# EAGLE library part SI7006-A20-IM1 (library SamacSys_Parts)
Si7006 Digital RH temp sensor w filter Silicon Labs Si7006-A20-IM1 Temperature & Humidity Sensor, -40 +125 C, 6-Pin DFN Source: Datasheet <https://www.silabs.com/documents/public/data-sheets/Si7006-A20.pdf>
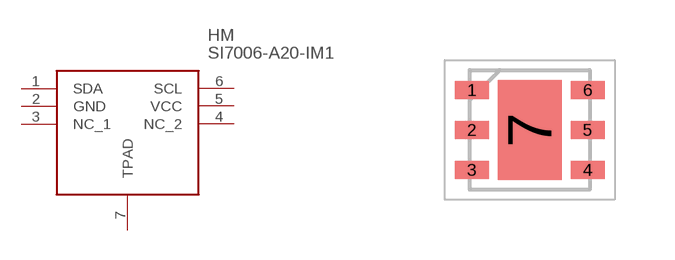
[diagram p8: symbol with the pads of SON100P300X300X80-7N; footprint SON100P300X300X80-7N]

Designator prefix HM

## SI7006-A20-IM1 (DESCRIPTION: Si7006 Digital RH temp sensor w filter Silicon Labs Si7006-A20-IM1 Temperature & Humidity Sensor, -40 +125 C, 6-Pin DFN; HEIGHT: 0.8mm; MANUFACTURER_NAME: Silicon Labs; MANUFACTURER_PART_NUMBER: Si7006-A20-IM1; MOUSER_PART_NUMBER: 634-SI7006-A20-IM1; MOUSER_PRICE-STOCK: https://www.mouser.com/Search/Refine.aspx?Keyword=634-SI7006-A20-IM1; RS_PART_NUMBER: 8652283P; RS_PRICE-STOCK: http://uk.rs-online.com/web/p/products/8652283P)  [SON100P300X300X80-7N]
1  SDA
2  GND  pwr
3  NC_1
4  NC_2
5  VCC  pwr
6  SCL  in
7  TPAD

## Footprint SON100P300X300X80-7N (pad centres in mm)
DFN6
smd 0.85 x 0.45: 1 -1.45,1; 2 -1.45,0; 3 -1.45,-1; 4 1.45,-1; 5 1.45,0; 6 1.45,1
smd 1.6 x 2.5: 7 0,0